# EAGLE library part CON-MIL-6 (library mylib)
MIL Box Pinheader : 6Pin
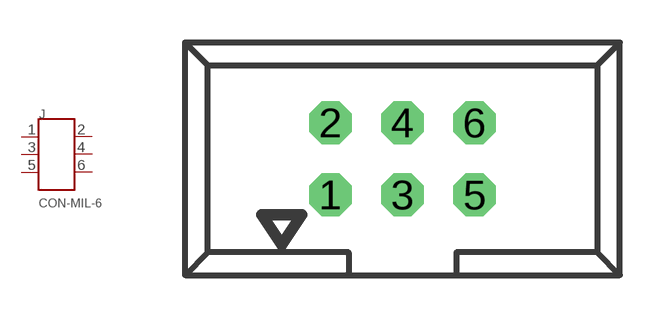
[diagram p25: symbol with the pads of CON-MIL-6; footprint CON-MIL-6]

Designator prefix J

## CON-MIL-6  [CON-MIL-6]
1  1
2  2
3  3
4  4
5  5
6  6

## Footprint CON-MIL-6 (pad centres in mm)
drill 1 octagon: 1 -2.54,-1.27; 2 -2.54,1.27; 3 0,-1.27; 4 0,1.27; 5 2.54,-1.27; 6 2.54,1.27